# Altium schematic symbol library PIC(14)pin.SchLib: 1 symbol
Pins are listed as number, name and electrical type; pins without a type are passive.

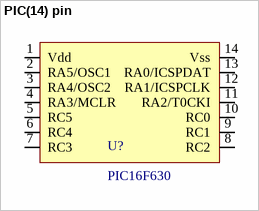
[diagram p0: symbol PIC(14) pin]

## PIC(14) pin
designator U?, comment PIC16F630
footprint PIC16f630
pins: 1 Vdd, 2 RA5/OSC1, 3 RA4/OSC2, 4 RA3/MCLR, 5 RC5, 6 RC4, 7 RC3, 8 RC2, 9 RC1, 10 RC0, 11 RA2/T0CKI, 12 RA1/ICSPCLK, 13 RA0/ICSPDAT, 14 Vss